# EAGLE library part 653010117322 (library Wire-to-Board (rev18a))
WR-WTB 1.25mm Male Horizontal Shrouded Header, 10 Pins=>Code : Con_WTB_1.25_PCB_THT_653010117322 <http://katalog.we-online.de/media/thumbs2/eican/thb_Con_WTB_1.25_PCB_THT_6530xx117322_pf2.jpg> Details see: http://katalog.we-online.de/en/em/WTB_1_25_MALE_HORIZONTAL_SHROUDED_HEADER_6530XX117322 Created 2014-06-06, Karrer Zheng 2014 (C) Würth Elektronik
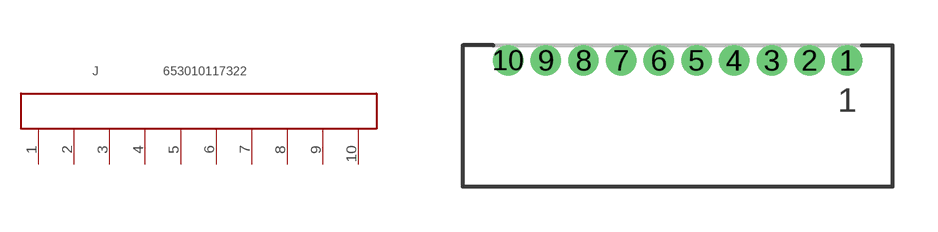
[diagram p90: symbol with the pads of 653010117322; footprint 653010117322]

Designator prefix J

## 653010117322  [653010117322]
1  10  pas
2  9  pas
3  8  pas
4  7  pas
5  6  pas
6  5  pas
7  4  pas
8  3  pas
9  2  pas
10  1  pas

## Footprint 653010117322 (pad centres in mm)
WR-WTB 1.25mm Male Horizontal Shrouded Header, 10 Pins
drill 0.5: 1 5.625,0; 2 4.375,0; 3 3.125,0; 4 1.875,0; 5 0.625,0; 6 -0.625,0; 7 -1.875,0; 8 -3.125,0; 9 -4.375,0; 10 -5.625,0